# Altium footprint library HARWIN_M20-9730846.PcbLib: 1 footprints
Each footprint in its own frame and in the unit in brackets; x right, y up, seen from the top. Pads: shape width x height; smd on the part's side, far side on the other; paste and mask are expansions set on the pad; w line width, h text height; cw(c..) or ccw(c..) is an arc to the next point about the centre after c.
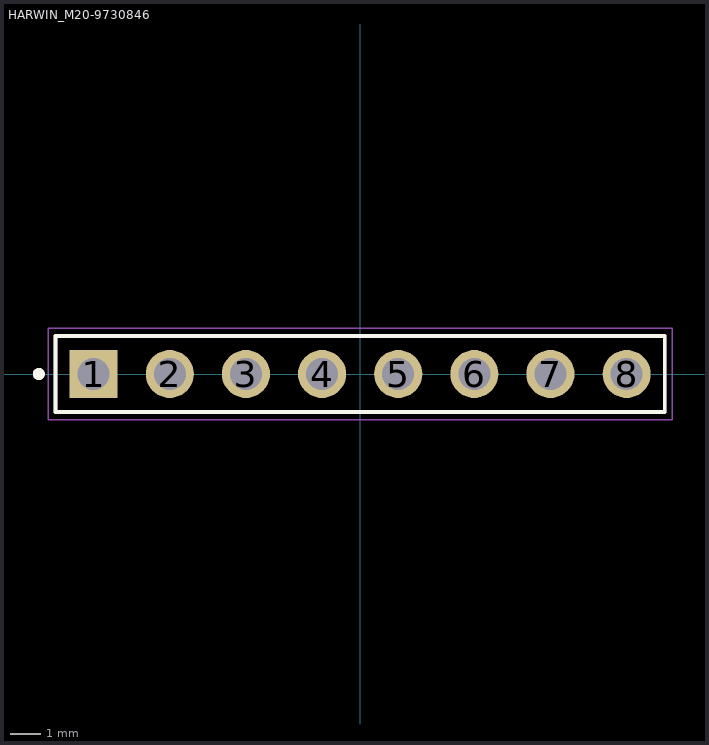
[diagram p0: the footprint, top view; thin cyan lines are the x and y axes]

## HARWIN_M20-9730846 [mm]
pads (8):
  rect 1.605x1.605 hole 1.07: 1(-8.89,0)
  round 1.605 hole 1.07: 2(-6.35,0) 3(-3.81,0) 4(-1.27,0) 5(1.27,0) 6(3.81,0) 7(6.35,0) 8(8.89,0)
Top Overlay:
  circle w0.2: c-10.72,0 r0.1
  lines w0.127: -10.16,-1.27 10.16,-1.27 10.16,1.27 -10.16,1.27 -10.16,-1.27
Assembly Top:
  circle w0.2: c-10.72,0 r0.1
  lines w0.127: -10.16,-1.27 10.16,-1.27 10.16,1.27 -10.16,1.27 -10.16,-1.27
Courtyard Top:
  lines w0.05: -10.41,-1.52 10.41,-1.52 10.41,1.52 -10.41,1.52 -10.41,-1.52